# EAGLE library part AMHRR3 (library ads4)
AMHRR3/6/8 AM Radio Receiver From OKW Electronics
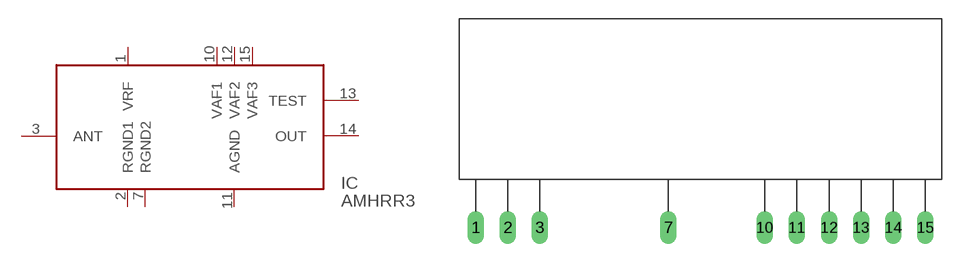
[diagram p15: symbol with the pads of AMHRR3; footprint AMHRR3]

Designator prefix IC

## AMHRR3HORIZ  [AMHRR3]
1  VRF  pwr
2  RGND1  pwr
3  ANT  pas
7  RGND2  pwr
10  VAF1  pwr
11  AGND  pwr
12  VAF2  pwr
13  TEST  pas
14  OUT  pas
15  VAF3  pwr

## Footprint AMHRR3 (pad centres in mm)
AMHRR3/6/8 AM Receiver Module From OKW Electronics This package bent at pins and mounted horizontally
drill 0.813 long: 1 -17.78,0; 2 -15.24,0; 3 -12.7,0; 7 -2.54,0; 10 5.08,0; 11 7.62,0; 12 10.16,0; 13 12.7,0; 14 15.24,0; 15 17.78,0